# EAGLE library part LT3751 (library be_driver)
edited: Loebner
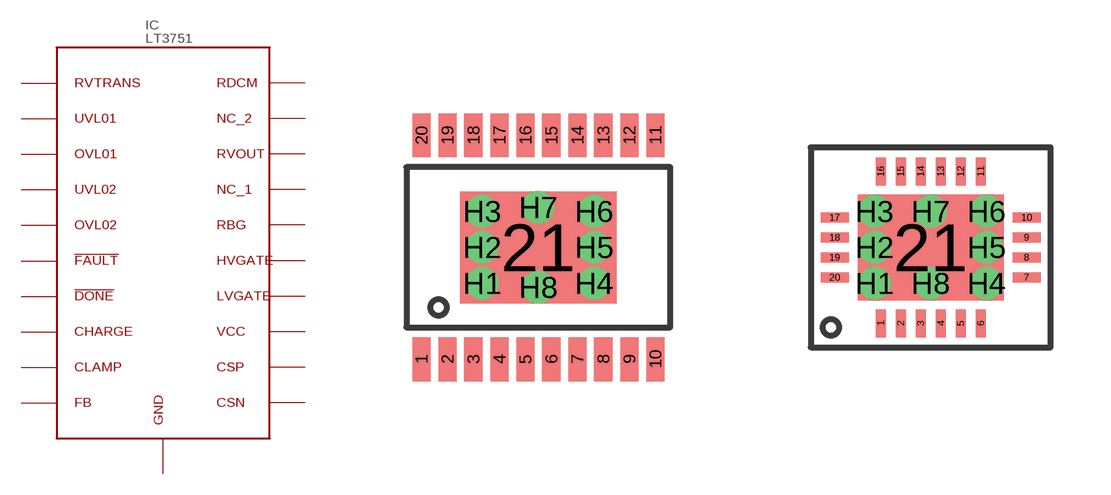
[diagram p5: symbol with the pads of S_TSSOP21; footprints S_TSSOP21, S_QFN21]

Designator prefix IC

## LT3751FE (BOM: YES; COMMISSIONED: 2014-07-09; PART_CODE_BEL: IC_PAC_S_TSSOP21_VAL_LT3751FE)  [S_TSSOP21]
1  RVTRANS  pwr
2  UVL01  in
3  OVL01  in
4  UVL02  in
5  OVL02  in
6  !FAULT  out
7  !DONE  out
8  CHARGE  in
9  CLAMP  in
10  FB  in
11  CSN  in
12  CSP  in
13  VCC  pwr
14  LVGATE  out
15  HVGATE  out
16  RBG  in
17  NC_1  nc
18  RVOUT  in
19  NC_2  nc
20  RDCM  in
21  GND  pwr
H1  GND  pwr
H2  GND  pwr
H3  GND  pwr
H4  GND  pwr
H5  GND  pwr
H6  GND  pwr
H7  GND  pwr
H8  GND  pwr

## LT3751FD (BOM: YES; COMMISSIONED: 2014-07-11; PART_CODE_BEL: IC_PAC_S_QFN21_VAL_LT3751FD)  [S_QFN21]
1  OVL01  in
2  UVL02  in
3  OVL02  in
4  !FAULT  out
5  !DONE  out
6  CHARGE  in
7  CLAMP  in
8  FB  in
9  CSN  in
10  CSP  in
11  VCC  pwr
12  LVGATE  out
13  HVGATE  out
14  RBG  in
15  NC_1  nc
16  RVOUT  in
17  RDCM  in
18  NC_2  nc
19  RVTRANS  pwr
20  UVL01  in
21  GND  pwr
H1  GND  pwr
H2  GND  pwr
H3  GND  pwr
H4  GND  pwr
H5  GND  pwr
H6  GND  pwr
H7  GND  pwr
H8  GND  pwr

## Footprint S_TSSOP21 (pad centres in mm)
edited: Loebner date: 2014-07-09
smd 0.45 x 1.1: 1 -2.925,-2.8; 2 -2.275,-2.8; 3 -1.625,-2.8; 4 -0.975,-2.8; 5 -0.325,-2.8; 6 0.325,-2.8; 7 0.975,-2.8; 8 1.625,-2.8; 9 2.275,-2.8; 10 2.925,-2.8; 11 2.925,2.8; 12 2.275,2.8; 13 1.625,2.8; 14 0.975,2.8; 15 0.325,2.8; 16 -0.325,2.8; 17 -0.975,2.8; 18 -1.625,2.8; 19 -2.275,2.8; 20 -2.925,2.8
smd 3.9 x 2.8: 21 0,0
drill 0.3 pad 0.7: H1 -1.4,-0.9; H2 -1.4,0; H3 -1.4,0.9; H4 1.4,-0.9; H5 1.4,0; H6 1.4,0.9; H7 0,1; H8 0,-1

## Footprint S_QFN21 (pad centres in mm)
edited: Loebner date: 2014-07-11
smd 0.25 x 0.7: 1 -1.25,-1.9; 2 -0.75,-1.9; 3 -0.25,-1.9; 4 0.25,-1.9; 5 0.75,-1.9; 6 1.25,-1.9; 11 1.25,1.9; 12 0.75,1.9; 13 0.25,1.9; 14 -0.25,1.9; 15 -0.75,1.9; 16 -1.25,1.9
smd 0.7 x 0.25: 7 2.4,-0.75; 8 2.4,-0.25; 9 2.4,0.25; 10 2.4,0.75; 17 -2.4,0.75; 18 -2.4,0.25; 19 -2.4,-0.25; 20 -2.4,-0.75
smd 3.65 x 2.65: 21 0,0
drill 0.3 pad 0.7: H1 -1.4,-0.9; H2 -1.4,0; H3 -1.4,0.9; H4 1.4,-0.9; H5 1.4,0; H6 1.4,0.9; H7 0,0.9; H8 0,-0.9